# Altium integrated library TI Power Management Battery Management.IntLib: 949 symbols (part 44 of 62)
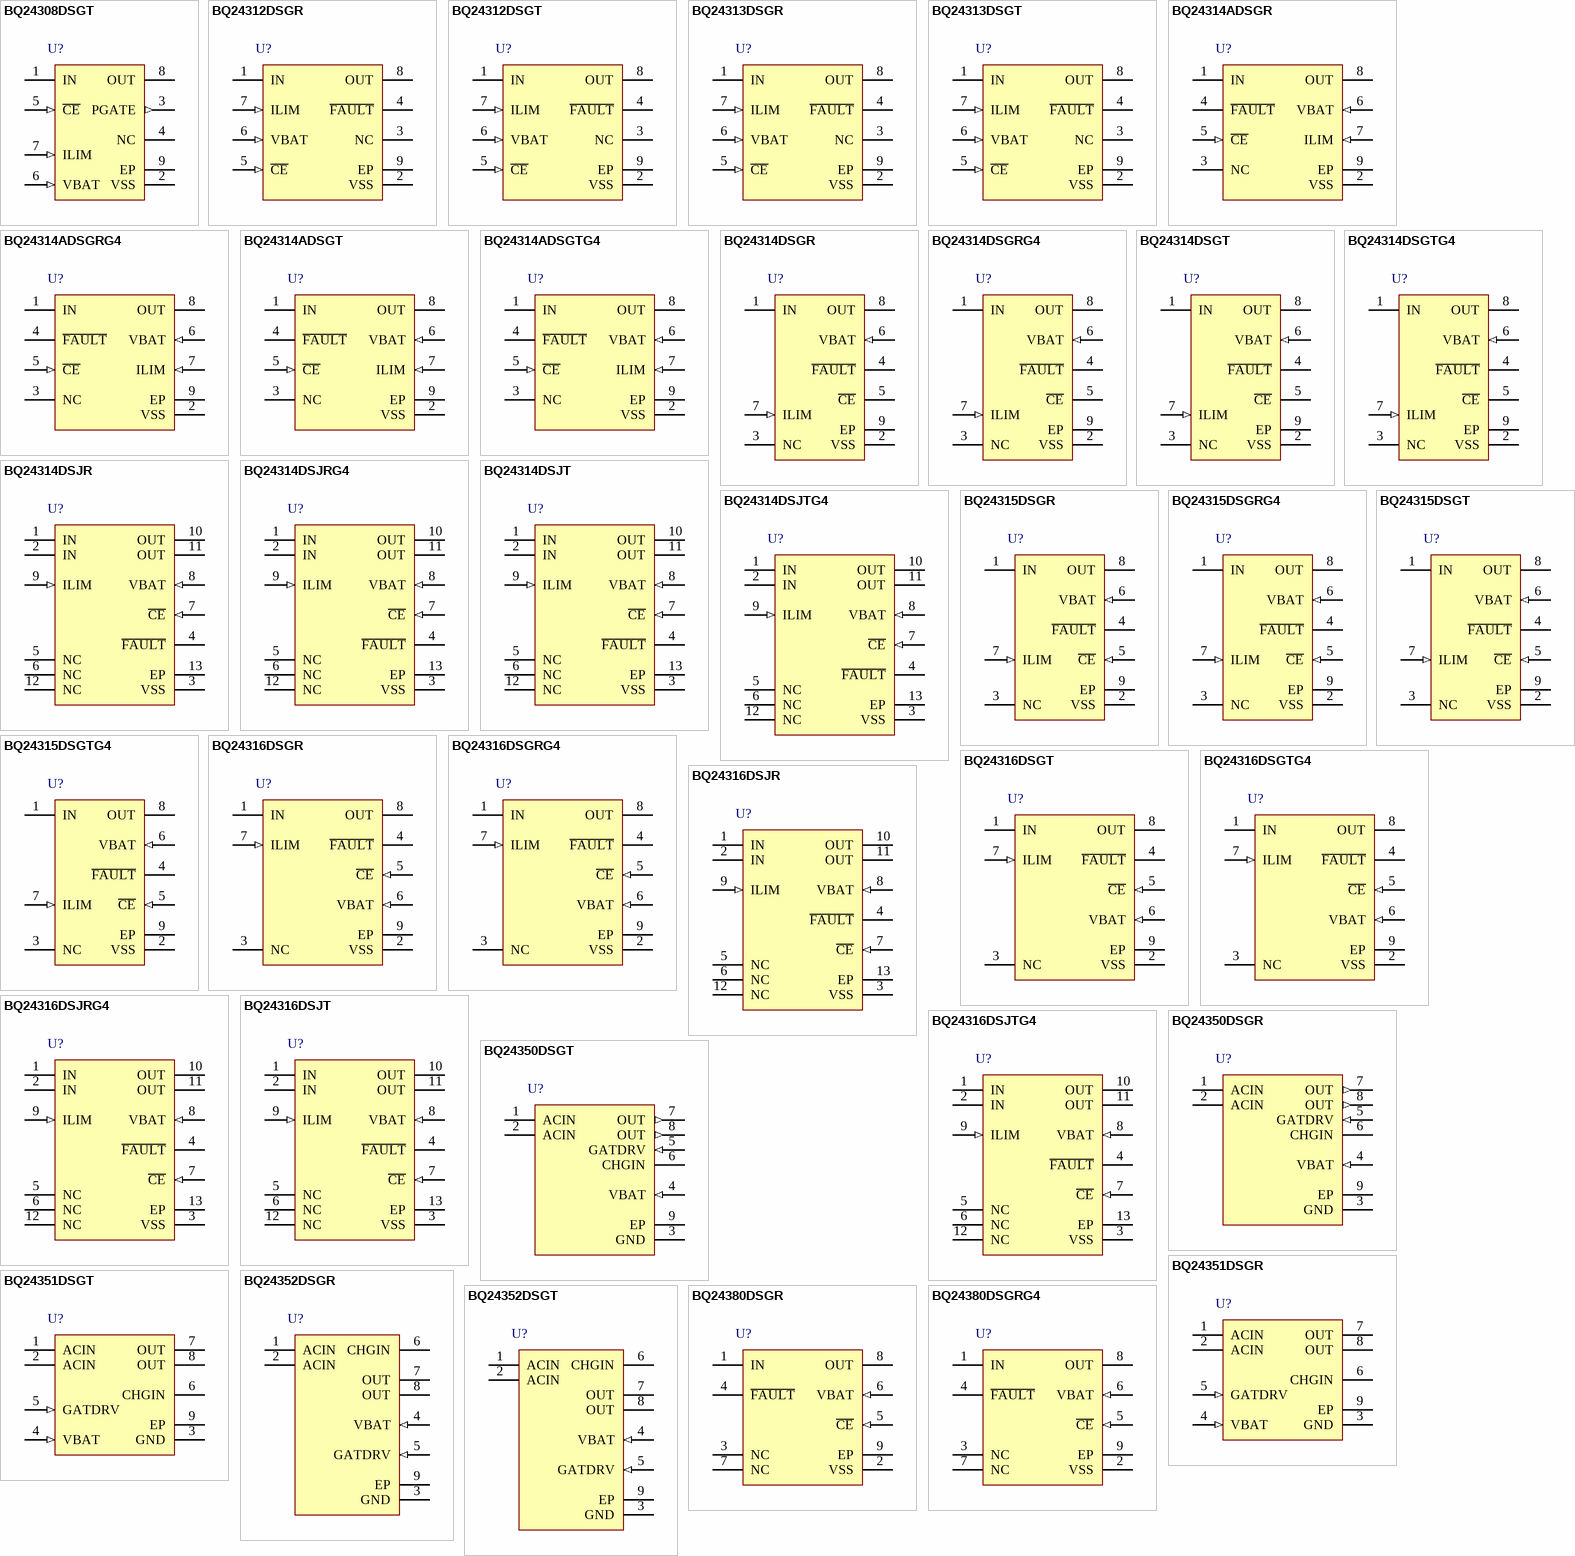
[diagram p77: symbols BQ24308DSGT to BQ24380DSGRG4]

## BQ24314DSGRG4
designator U?
Charger Front End Protection IC with 30 V Max Vin and 5.85 V OVP, -40 to 85 degC, 8-pin WSON (DSG), Green (RoHS & no Sb/Br); PartNumber: BQ24314DSGRG4; Manufacturer: Texas Instruments; Lead Acid: N; DatasheetVersion: SLUS763C; PackageVersion: revB, Oct-2010; PackageReference: DSG8-1600X900TP; PackageDescription: 8-Pin Plastic Small Outline No-Lead, 2 x 2 x 0.8 mm Body, 0.5 mm Pitch, Exposed Pad; Supplier 1: Digi-Key; Supplier Part Number 1: BQ24314DSGRG4-ND; Supplier 2: Mouser; Supplier Part Number 2: 595-BQ24314DSGRG4; Eco-Plan: Green (RoHS & no Sb/Br); Li-Ion: N; Li-Polymer: N; NiCd: N; NiMH: N; Over Voltage Protection: N; SubFamily: Charger Front End Protection; Mounting Technology: Surface Mount; Code_JEDEC: MO-229; ComponentLink1Description: Datasheet; ComponentLink1URL: http://www.ti.com/general/docs/lit/getliterature.tsp?genericPartNumber=BQ24314&fileType=pdf
footprint DSG8-1600X900TP (SON, 8-Leads, Body 2x2mm, Pitch 0.5mm, Thermal Pad 1.6x0.9mm, TI Recommended)
pins: 1 IN (power) "Input power, connect to external DC supply. Connect external 1uF ceramic capacitor (minimum) to VSS. For the 12 pin (DSJ-suffix) device, ensure that pins 1 and 2 are connected together on the PCB at the device.", 2 VSS (power) "Ground terminal", 3 NC "These pins may have internal circuits used for test purposes. Do not make any external connections at these pins for normal operation.", 4 ~{FAULT} (hiz) "Open-drain output, device status. F\A\U\L\T\ = Low indicates that the input FET Q1 has been turned off due to input overvoltage, input overcurrent, battery overvoltage, or thermal shutdown.", 5 ~{CE} "Chip enable input. Active low. When C\E\ = High, the input FET is off. Internally pulled down.", 6 VBAT (in) "Battery voltage sense input. Connect to pack positive terminal through a resistor.", 7 ILIM (in) "Input overcurrent threshold programming. Connect a resistor to VSS to set the overcurrent threshold.", 8 OUT (power) "Output terminal to the charging system. Connect external 1uF ceramic capacitor (minimum) to VSS.", 9 EP (power) "There is an internal electrical connection between the exposed thermal pad and the VSS pin of the Thermal device. The thermal pad must be connected to the same potential as the VSS pin on the printed PAD circuit board. Do (See Datasheet)"

## BQ24314DSGT
designator U?
Charger Front End Protection IC with 30 V Max Vin and 5.85 V OVP, -40 to 85 degC, 8-pin WSON (DSG), Green (RoHS & no Sb/Br); PartNumber: BQ24314DSGT; Manufacturer: Texas Instruments; Lead Acid: N; DatasheetVersion: SLUS763C; PackageVersion: revB, Oct-2010; PackageReference: DSG8-1600X900TP; PackageDescription: 8-Pin Plastic Small Outline No-Lead, 2 x 2 x 0.8 mm Body, 0.5 mm Pitch, Exposed Pad; Supplier 1: Digi-Key; Supplier Part Number 1: BQ24314DSGT-ND; Supplier 2: Farnell; Supplier Part Number 2: 1754758RL; Supplier 3: Farnell; Supplier Part Number 3: 1754758; Supplier 4: Mouser; Supplier Part Number 4: 595-BQ24314DSGT; Eco-Plan: Green (RoHS & no Sb/Br); Li-Ion: N; Li-Polymer: N; NiCd: N; NiMH: N; Over Voltage Protection: N; SubFamily: Charger Front End Protection; Mounting Technology: Surface Mount; Code_JEDEC: MO-229; ComponentLink1Description: Datasheet; ComponentLink1URL: http://www.ti.com/general/docs/lit/getliterature.tsp?genericPartNumber=BQ24314&fileType=pdf
footprint DSG8-1600X900TP (SON, 8-Leads, Body 2x2mm, Pitch 0.5mm, Thermal Pad 1.6x0.9mm, TI Recommended)
pins: 1 IN (power) "Input power, connect to external DC supply. Connect external 1uF ceramic capacitor (minimum) to VSS. For the 12 pin (DSJ-suffix) device, ensure that pins 1 and 2 are connected together on the PCB at the device.", 2 VSS (power) "Ground terminal", 3 NC "These pins may have internal circuits used for test purposes. Do not make any external connections at these pins for normal operation.", 4 ~{FAULT} (hiz) "Open-drain output, device status. F\A\U\L\T\ = Low indicates that the input FET Q1 has been turned off due to input overvoltage, input overcurrent, battery overvoltage, or thermal shutdown.", 5 ~{CE} "Chip enable input. Active low. When C\E\ = High, the input FET is off. Internally pulled down.", 6 VBAT (in) "Battery voltage sense input. Connect to pack positive terminal through a resistor.", 7 ILIM (in) "Input overcurrent threshold programming. Connect a resistor to VSS to set the overcurrent threshold.", 8 OUT (power) "Output terminal to the charging system. Connect external 1uF ceramic capacitor (minimum) to VSS.", 9 EP (power) "There is an internal electrical connection between the exposed thermal pad and the VSS pin of the Thermal device. The thermal pad must be connected to the same potential as the VSS pin on the printed PAD circuit board. Do (See Datasheet)"

## BQ24314DSGTG4
designator U?
Charger Front End Protection IC with 30 V Max Vin and 5.85 V OVP, -40 to 85 degC, 8-pin WSON (DSG), Green (RoHS & no Sb/Br); PartNumber: BQ24314DSGTG4; Manufacturer: Texas Instruments; Lead Acid: N; DatasheetVersion: SLUS763C; PackageVersion: revB, Oct-2010; PackageReference: DSG8-1600X900TP; PackageDescription: 8-Pin Plastic Small Outline No-Lead, 2 x 2 x 0.8 mm Body, 0.5 mm Pitch, Exposed Pad; Supplier 1: Digi-Key; Supplier Part Number 1: BQ24314DSGTG4-ND; Supplier 2: Mouser; Supplier Part Number 2: 595-BQ24314DSGTG4; Eco-Plan: Green (RoHS & no Sb/Br); Li-Ion: N; Li-Polymer: N; NiCd: N; NiMH: N; Over Voltage Protection: N; SubFamily: Charger Front End Protection; Mounting Technology: Surface Mount; Code_JEDEC: MO-229; ComponentLink1Description: Datasheet; ComponentLink1URL: http://www.ti.com/general/docs/lit/getliterature.tsp?genericPartNumber=BQ24314&fileType=pdf
footprint DSG8-1600X900TP (SON, 8-Leads, Body 2x2mm, Pitch 0.5mm, Thermal Pad 1.6x0.9mm, TI Recommended)
pins: 1 IN (power) "Input power, connect to external DC supply. Connect external 1uF ceramic capacitor (minimum) to VSS. For the 12 pin (DSJ-suffix) device, ensure that pins 1 and 2 are connected together on the PCB at the device.", 2 VSS (power) "Ground terminal", 3 NC "These pins may have internal circuits used for test purposes. Do not make any external connections at these pins for normal operation.", 4 ~{FAULT} (hiz) "Open-drain output, device status. F\A\U\L\T\ = Low indicates that the input FET Q1 has been turned off due to input overvoltage, input overcurrent, battery overvoltage, or thermal shutdown.", 5 ~{CE} "Chip enable input. Active low. When C\E\ = High, the input FET is off. Internally pulled down.", 6 VBAT (in) "Battery voltage sense input. Connect to pack positive terminal through a resistor.", 7 ILIM (in) "Input overcurrent threshold programming. Connect a resistor to VSS to set the overcurrent threshold.", 8 OUT (power) "Output terminal to the charging system. Connect external 1uF ceramic capacitor (minimum) to VSS.", 9 EP (power) "There is an internal electrical connection between the exposed thermal pad and the VSS pin of the Thermal device. The thermal pad must be connected to the same potential as the VSS pin on the printed PAD circuit board. Do (See Datasheet)"

## BQ24314DSJR
designator U?
Charger Front End Protection IC with 30 V Max Vin and 5.85 V OVP, -40 to 85 degC, 12-pin VSON (DSJ), Green (RoHS & no Sb/Br); PartNumber: BQ24314DSJR; Manufacturer: Texas Instruments; Lead Acid: N; DatasheetVersion: SLUS763C; PackageVersion: revC, Jun-2011; PackageReference: DSJ12-3300X1700TP; PackageDescription: 12-Pin Plastic Small Outline No-Lead, 3 x 4 x 1 mm Body, 0.5 mm Pitch, Exposed Pad; Supplier 1: Digi-Key; Supplier Part Number 1: 296-24698-2-ND; Supplier 2: Digi-Key; Supplier Part Number 2: 296-24698-1-ND; Supplier 3: Digi-Key; Supplier Part Number 3: 296-24698-6-ND; Supplier 4: Mouser; Supplier Part Number 4: 595-BQ24314DSJR; Eco-Plan: Green (RoHS & no Sb/Br); Li-Ion: N; Li-Polymer: N; NiCd: N; NiMH: N; Over Voltage Protection: N; SubFamily: Charger Front End Protection; Mounting Technology: Surface Mount; Code_JEDEC: MO-229; ComponentLink1Description: Datasheet; ComponentLink1URL: http://www.ti.com/general/docs/lit/getliterature.tsp?genericPartNumber=BQ24314&fileType=pdf
footprint DSJ12-3300X1700TP (SON, 12-Leads, Body 3x4mm, Pitch 0.5mm, Thermal Pad 3.3x1.7mm)
pins: 1 IN (power) "Input power, connect to external DC supply. Connect external 1uF ceramic capacitor (minimum) to VSS. For the 12 pin (DSJ-suffix) device, ensure that pins 1 and 2 are connected together on the PCB at the device.", 2 IN (power) "Input power, connect to external DC supply. Connect external 1uF ceramic capacitor (minimum) to VSS. For the 12 pin (DSJ-suffix) device, ensure that pins 1 and 2 are connected together on the PCB at the device.", 3 VSS (power) "Ground terminal", 4 ~{FAULT} (hiz) "Open-drain output, device status. F\A\U\L\T\ = Low indicates that the input FET Q1 has been turned off due to input overvoltage, input overcurrent, battery overvoltage, or thermal shutdown.", 5 NC "These pins may have internal circuits used for test purposes. Do not make any external connections at these pins for normal operation.", 6 NC "These pins may have internal circuits used for test purposes. Do not make any external connections at these pins for normal operation.", 7 ~{CE} (in) "Chip enable input. Active low. When C\E\ = High, the input FET is off. Internally pulled down.", 8 VBAT (in) "Battery voltage sense input. Connect to pack positive terminal through a resistor.", 9 ILIM (in) "Input overcurrent threshold programming. Connect a resistor to VSS to set the overcurrent threshold.", 10 OUT (power) "Output terminal to the charging system. Connect external 1uF ceramic capacitor (minimum) to VSS.", 11 OUT (power) "Output terminal to the charging system. Connect external 1uF ceramic capacitor (minimum) to VSS.", 12 NC "These pins may have internal circuits used for test purposes. Do not make any external connections at these pins for normal operation.", 13 EP (power) "There is an internal electrical connection between the exposed thermal pad and the VSS pin of the device. The thermal pad must be connected to the same potential as the VSS pin on the printed circuit board. Do not use the (See Datasheet)"

## BQ24314DSJRG4
designator U?
Charger Front End Protection IC with 30 V Max Vin and 5.85 V OVP, -40 to 85 degC, 12-pin VSON (DSJ), Green (RoHS & no Sb/Br); PartNumber: BQ24314DSJRG4; Manufacturer: Texas Instruments; Lead Acid: N; DatasheetVersion: SLUS763C; PackageVersion: revC, Jun-2011; PackageReference: DSJ12-3300X1700TP; PackageDescription: 12-Pin Plastic Small Outline No-Lead, 3 x 4 x 1 mm Body, 0.5 mm Pitch, Exposed Pad; Supplier 1: Digi-Key; Supplier Part Number 1: BQ24314DSJRG4-ND; Supplier 2: Mouser; Supplier Part Number 2: 595-BQ24314DSJRG4; Eco-Plan: Green (RoHS & no Sb/Br); Li-Ion: N; Li-Polymer: N; NiCd: N; NiMH: N; Over Voltage Protection: N; SubFamily: Charger Front End Protection; Mounting Technology: Surface Mount; Code_JEDEC: MO-229; ComponentLink1Description: Datasheet; ComponentLink1URL: http://www.ti.com/general/docs/lit/getliterature.tsp?genericPartNumber=BQ24314&fileType=pdf
footprint DSJ12-3300X1700TP (SON, 12-Leads, Body 3x4mm, Pitch 0.5mm, Thermal Pad 3.3x1.7mm)
pins: 1 IN (power) "Input power, connect to external DC supply. Connect external 1uF ceramic capacitor (minimum) to VSS. For the 12 pin (DSJ-suffix) device, ensure that pins 1 and 2 are connected together on the PCB at the device.", 2 IN (power) "Input power, connect to external DC supply. Connect external 1uF ceramic capacitor (minimum) to VSS. For the 12 pin (DSJ-suffix) device, ensure that pins 1 and 2 are connected together on the PCB at the device.", 3 VSS (power) "Ground terminal", 4 ~{FAULT} (hiz) "Open-drain output, device status. F\A\U\L\T\ = Low indicates that the input FET Q1 has been turned off due to input overvoltage, input overcurrent, battery overvoltage, or thermal shutdown.", 5 NC "These pins may have internal circuits used for test purposes. Do not make any external connections at these pins for normal operation.", 6 NC "These pins may have internal circuits used for test purposes. Do not make any external connections at these pins for normal operation.", 7 ~{CE} (in) "Chip enable input. Active low. When C\E\ = High, the input FET is off. Internally pulled down.", 8 VBAT (in) "Battery voltage sense input. Connect to pack positive terminal through a resistor.", 9 ILIM (in) "Input overcurrent threshold programming. Connect a resistor to VSS to set the overcurrent threshold.", 10 OUT (power) "Output terminal to the charging system. Connect external 1uF ceramic capacitor (minimum) to VSS.", 11 OUT (power) "Output terminal to the charging system. Connect external 1uF ceramic capacitor (minimum) to VSS.", 12 NC "These pins may have internal circuits used for test purposes. Do not make any external connections at these pins for normal operation.", 13 EP (power) "There is an internal electrical connection between the exposed thermal pad and the VSS pin of the device. The thermal pad must be connected to the same potential as the VSS pin on the printed circuit board. Do not use the (See Datasheet)"

## BQ24314DSJT
designator U?
Charger Front End Protection IC with 30 V Max Vin and 5.85 V OVP, -40 to 85 degC, 12-pin VSON (DSJ), Green (RoHS & no Sb/Br); PartNumber: BQ24314DSJT; Manufacturer: Texas Instruments; Lead Acid: N; DatasheetVersion: SLUS763C; PackageVersion: revC, Jun-2011; PackageReference: DSJ12-3300X1700TP; PackageDescription: 12-Pin Plastic Small Outline No-Lead, 3 x 4 x 1 mm Body, 0.5 mm Pitch, Exposed Pad; Supplier 1: Digi-Key; Supplier Part Number 1: BQ24314DSJT-ND; Supplier 2: Mouser; Supplier Part Number 2: 595-BQ24314DSJT; Eco-Plan: Green (RoHS & no Sb/Br); Li-Ion: N; Li-Polymer: N; NiCd: N; NiMH: N; Over Voltage Protection: N; SubFamily: Charger Front End Protection; Mounting Technology: Surface Mount; Code_JEDEC: MO-229; ComponentLink1Description: Datasheet; ComponentLink1URL: http://www.ti.com/general/docs/lit/getliterature.tsp?genericPartNumber=BQ24314&fileType=pdf
footprint DSJ12-3300X1700TP (SON, 12-Leads, Body 3x4mm, Pitch 0.5mm, Thermal Pad 3.3x1.7mm)
pins: 1 IN (power) "Input power, connect to external DC supply. Connect external 1uF ceramic capacitor (minimum) to VSS. For the 12 pin (DSJ-suffix) device, ensure that pins 1 and 2 are connected together on the PCB at the device.", 2 IN (power) "Input power, connect to external DC supply. Connect external 1uF ceramic capacitor (minimum) to VSS. For the 12 pin (DSJ-suffix) device, ensure that pins 1 and 2 are connected together on the PCB at the device.", 3 VSS (power) "Ground terminal", 4 ~{FAULT} (hiz) "Open-drain output, device status. F\A\U\L\T\ = Low indicates that the input FET Q1 has been turned off due to input overvoltage, input overcurrent, battery overvoltage, or thermal shutdown.", 5 NC "These pins may have internal circuits used for test purposes. Do not make any external connections at these pins for normal operation.", 6 NC "These pins may have internal circuits used for test purposes. Do not make any external connections at these pins for normal operation.", 7 ~{CE} (in) "Chip enable input. Active low. When C\E\ = High, the input FET is off. Internally pulled down.", 8 VBAT (in) "Battery voltage sense input. Connect to pack positive terminal through a resistor.", 9 ILIM (in) "Input overcurrent threshold programming. Connect a resistor to VSS to set the overcurrent threshold.", 10 OUT (power) "Output terminal to the charging system. Connect external 1uF ceramic capacitor (minimum) to VSS.", 11 OUT (power) "Output terminal to the charging system. Connect external 1uF ceramic capacitor (minimum) to VSS.", 12 NC "These pins may have internal circuits used for test purposes. Do not make any external connections at these pins for normal operation.", 13 EP (power) "There is an internal electrical connection between the exposed thermal pad and the VSS pin of the device. The thermal pad must be connected to the same potential as the VSS pin on the printed circuit board. Do not use the (See Datasheet)"

## BQ24314DSJTG4
designator U?
Charger Front End Protection IC with 30 V Max Vin and 5.85 V OVP, -40 to 85 degC, 12-pin VSON (DSJ), Green (RoHS & no Sb/Br); PartNumber: BQ24314DSJTG4; Manufacturer: Texas Instruments; Lead Acid: N; DatasheetVersion: SLUS763C; PackageVersion: revC, Jun-2011; PackageReference: DSJ12-3300X1700TP; PackageDescription: 12-Pin Plastic Small Outline No-Lead, 3 x 4 x 1 mm Body, 0.5 mm Pitch, Exposed Pad; Supplier 1: Digi-Key; Supplier Part Number 1: BQ24314DSJTG4-ND; Supplier 2: Mouser; Supplier Part Number 2: 595-BQ24314DSJTG4; Eco-Plan: Green (RoHS & no Sb/Br); Li-Ion: N; Li-Polymer: N; NiCd: N; NiMH: N; Over Voltage Protection: N; SubFamily: Charger Front End Protection; Mounting Technology: Surface Mount; Code_JEDEC: MO-229; ComponentLink1Description: Datasheet; ComponentLink1URL: http://www.ti.com/general/docs/lit/getliterature.tsp?genericPartNumber=BQ24314&fileType=pdf
footprint DSJ12-3300X1700TP (SON, 12-Leads, Body 3x4mm, Pitch 0.5mm, Thermal Pad 3.3x1.7mm)
pins: 1 IN (power) "Input power, connect to external DC supply. Connect external 1uF ceramic capacitor (minimum) to VSS. For the 12 pin (DSJ-suffix) device, ensure that pins 1 and 2 are connected together on the PCB at the device.", 2 IN (power) "Input power, connect to external DC supply. Connect external 1uF ceramic capacitor (minimum) to VSS. For the 12 pin (DSJ-suffix) device, ensure that pins 1 and 2 are connected together on the PCB at the device.", 3 VSS (power) "Ground terminal", 4 ~{FAULT} (hiz) "Open-drain output, device status. F\A\U\L\T\ = Low indicates that the input FET Q1 has been turned off due to input overvoltage, input overcurrent, battery overvoltage, or thermal shutdown.", 5 NC "These pins may have internal circuits used for test purposes. Do not make any external connections at these pins for normal operation.", 6 NC "These pins may have internal circuits used for test purposes. Do not make any external connections at these pins for normal operation.", 7 ~{CE} (in) "Chip enable input. Active low. When C\E\ = High, the input FET is off. Internally pulled down.", 8 VBAT (in) "Battery voltage sense input. Connect to pack positive terminal through a resistor.", 9 ILIM (in) "Input overcurrent threshold programming. Connect a resistor to VSS to set the overcurrent threshold.", 10 OUT (power) "Output terminal to the charging system. Connect external 1uF ceramic capacitor (minimum) to VSS.", 11 OUT (power) "Output terminal to the charging system. Connect external 1uF ceramic capacitor (minimum) to VSS.", 12 NC "These pins may have internal circuits used for test purposes. Do not make any external connections at these pins for normal operation.", 13 EP (power) "There is an internal electrical connection between the exposed thermal pad and the VSS pin of the device. The thermal pad must be connected to the same potential as the VSS pin on the printed circuit board. Do not use the (See Datasheet)"

## BQ24315DSGR
designator U?
Overvoltage & Overcurrent Protection IC & Li+ Charger Front-End Protection IC, -40 to 125 degC, 8-pin WSON (DSG), Green (RoHS & no Sb/Br); PartNumber: BQ24315DSGR; Manufacturer: Texas Instruments; Lead Acid: N; SubFamily: Charger Front End Protection; DatasheetVersion: SLUS817A; PackageVersion: revB, Oct-2010; PackageReference: DSG8-1600X900TP; PackageDescription: 8-Pin Plastic Small Outline No-Lead, 2 x 2 x 0.8 mm Body, 0.5 mm Pitch, Exposed Pad; Supplier 1: Digi-Key; Supplier Part Number 1: 296-23341-2-ND; Supplier 2: Digi-Key; Supplier Part Number 2: 296-23341-1-ND; Supplier 3: Digi-Key; Supplier Part Number 3: 296-23341-6-ND; Supplier 4: Mouser; Supplier Part Number 4: 595-BQ24315DSGR; Eco-Plan: Green (RoHS & no Sb/Br); Li-Ion: N; Li-Polymer: N; NiCd: N; NiMH: N; Over Voltage Protection: N; Mounting Technology: Surface Mount; Code_JEDEC: MO-229; ComponentLink1Description: Datasheet; ComponentLink1URL: http://www.ti.com/general/docs/lit/getliterature.tsp?genericPartNumber=BQ24315&fileType=pdf
footprint DSG8-1600X900TP (SON, 8-Leads, Body 2x2mm, Pitch 0.5mm, Thermal Pad 1.6x0.9mm, TI Recommended)
pins: 1 IN (power) "Input power. Connect IN to the external DC supply. Bypass IN to VSS with a 1uF ceramic capacito (minimum).", 2 VSS (power) "Ground terminal", 3 NC "This pin may have internal circuits used for test purposes. Do not make any external connection to this pin for normal operation.", 4 ~{FAULT} (hiz) "Open-drain, device status output. F\A\U\L\T\ = Low indicates that the input FET Q1 is off due to input overvoltage, input overcurrent, battery overvoltage, or thermal shutdown. F\A\U\L\T\ is high impedance during normal (See Datasheet)", 5 ~{CE} (in) "Chip enable active low input. Connect C\E\ = High to disable the IC and turn the input FET off. Connect C\E\ = low for normal operation. C\E\ is internally pulled down.", 6 VBAT (in) "Battery voltage sense input. Connect to the battery pack positive terminal through a resistor.", 7 ILIM (in) "Input overcurrent threshold programming. Connect a resistor from ILIM to VSS to set the overcurrent threshold.", 8 OUT (power) "Output terminal to the charging system. Connect OUT to the external load circuitry. Bypass OUT to VSS with a 1uF ceramic capacitor (minimum).", 9 EP (power) "There is an internal electrical connection between the exposed thermal pad and the VSS pin of the device. The thermal pad must be connected to the same potential as the VSS pin on the printed circuit board. Do not use the (See Datasheet)"

## BQ24315DSGRG4
designator U?
Overvoltage & Overcurrent Protection IC & Li+ Charger Front-End Protection IC, -40 to 125 degC, 8-pin WSON (DSG), Green (RoHS & no Sb/Br); PartNumber: BQ24315DSGRG4; Manufacturer: Texas Instruments; Lead Acid: N; SubFamily: Charger Front End Protection; DatasheetVersion: SLUS817A; PackageVersion: revB, Oct-2010; PackageReference: DSG8-1600X900TP; PackageDescription: 8-Pin Plastic Small Outline No-Lead, 2 x 2 x 0.8 mm Body, 0.5 mm Pitch, Exposed Pad; Supplier 1: Digi-Key; Supplier Part Number 1: BQ24315DSGRG4-ND; Supplier 2: Mouser; Supplier Part Number 2: 595-BQ24315DSGRG4; Eco-Plan: Green (RoHS & no Sb/Br); Li-Ion: N; Li-Polymer: N; NiCd: N; NiMH: N; Over Voltage Protection: N; Mounting Technology: Surface Mount; Code_JEDEC: MO-229; ComponentLink1Description: Datasheet; ComponentLink1URL: http://www.ti.com/general/docs/lit/getliterature.tsp?genericPartNumber=BQ24315&fileType=pdf
footprint DSG8-1600X900TP (SON, 8-Leads, Body 2x2mm, Pitch 0.5mm, Thermal Pad 1.6x0.9mm, TI Recommended)
pins: 1 IN (power) "Input power. Connect IN to the external DC supply. Bypass IN to VSS with a 1uF ceramic capacito (minimum).", 2 VSS (power) "Ground terminal", 3 NC "This pin may have internal circuits used for test purposes. Do not make any external connection to this pin for normal operation.", 4 ~{FAULT} (hiz) "Open-drain, device status output. F\A\U\L\T\ = Low indicates that the input FET Q1 is off due to input overvoltage, input overcurrent, battery overvoltage, or thermal shutdown. F\A\U\L\T\ is high impedance during normal (See Datasheet)", 5 ~{CE} (in) "Chip enable active low input. Connect C\E\ = High to disable the IC and turn the input FET off. Connect C\E\ = low for normal operation. C\E\ is internally pulled down.", 6 VBAT (in) "Battery voltage sense input. Connect to the battery pack positive terminal through a resistor.", 7 ILIM (in) "Input overcurrent threshold programming. Connect a resistor from ILIM to VSS to set the overcurrent threshold.", 8 OUT (power) "Output terminal to the charging system. Connect OUT to the external load circuitry. Bypass OUT to VSS with a 1uF ceramic capacitor (minimum).", 9 EP (power) "There is an internal electrical connection between the exposed thermal pad and the VSS pin of the device. The thermal pad must be connected to the same potential as the VSS pin on the printed circuit board. Do not use the (See Datasheet)"

## BQ24315DSGT
designator U?
Overvoltage & Overcurrent Protection IC & Li+ Charger Front-End Protection IC, -40 to 125 degC, 8-pin WSON (DSG), Green (RoHS & no Sb/Br); PartNumber: BQ24315DSGT; Manufacturer: Texas Instruments; Lead Acid: N; SubFamily: Charger Front End Protection; DatasheetVersion: SLUS817A; PackageVersion: revB, Oct-2010; PackageReference: DSG8-1600X900TP; PackageDescription: 8-Pin Plastic Small Outline No-Lead, 2 x 2 x 0.8 mm Body, 0.5 mm Pitch, Exposed Pad; Supplier 1: Digi-Key; Supplier Part Number 1: 296-32030-2-ND; Supplier 2: Digi-Key; Supplier Part Number 2: 296-32030-1-ND; Supplier 3: Digi-Key; Supplier Part Number 3: 296-32030-6-ND; Supplier 4: Mouser; Supplier Part Number 4: 595-BQ24315DSGT; Eco-Plan: Green (RoHS & no Sb/Br); Li-Ion: N; Li-Polymer: N; NiCd: N; NiMH: N; Over Voltage Protection: N; Mounting Technology: Surface Mount; Code_JEDEC: MO-229; ComponentLink1Description: Datasheet; ComponentLink1URL: http://www.ti.com/general/docs/lit/getliterature.tsp?genericPartNumber=BQ24315&fileType=pdf
footprint DSG8-1600X900TP (SON, 8-Leads, Body 2x2mm, Pitch 0.5mm, Thermal Pad 1.6x0.9mm, TI Recommended)
pins: 1 IN (power) "Input power. Connect IN to the external DC supply. Bypass IN to VSS with a 1uF ceramic capacito (minimum).", 2 VSS (power) "Ground terminal", 3 NC "This pin may have internal circuits used for test purposes. Do not make any external connection to this pin for normal operation.", 4 ~{FAULT} (hiz) "Open-drain, device status output. F\A\U\L\T\ = Low indicates that the input FET Q1 is off due to input overvoltage, input overcurrent, battery overvoltage, or thermal shutdown. F\A\U\L\T\ is high impedance during normal (See Datasheet)", 5 ~{CE} (in) "Chip enable active low input. Connect C\E\ = High to disable the IC and turn the input FET off. Connect C\E\ = low for normal operation. C\E\ is internally pulled down.", 6 VBAT (in) "Battery voltage sense input. Connect to the battery pack positive terminal through a resistor.", 7 ILIM (in) "Input overcurrent threshold programming. Connect a resistor from ILIM to VSS to set the overcurrent threshold.", 8 OUT (power) "Output terminal to the charging system. Connect OUT to the external load circuitry. Bypass OUT to VSS with a 1uF ceramic capacitor (minimum).", 9 EP (power) "There is an internal electrical connection between the exposed thermal pad and the VSS pin of the device. The thermal pad must be connected to the same potential as the VSS pin on the printed circuit board. Do not use the (See Datasheet)"

## BQ24315DSGTG4
designator U?
Overvoltage & Overcurrent Protection IC & Li+ Charger Front-End Protection IC, -40 to 125 degC, 8-pin WSON (DSG), Green (RoHS & no Sb/Br); PartNumber: BQ24315DSGTG4; Manufacturer: Texas Instruments; Lead Acid: N; SubFamily: Charger Front End Protection; DatasheetVersion: SLUS817A; PackageVersion: revB, Oct-2010; PackageReference: DSG8-1600X900TP; PackageDescription: 8-Pin Plastic Small Outline No-Lead, 2 x 2 x 0.8 mm Body, 0.5 mm Pitch, Exposed Pad; Supplier 1: Digi-Key; Supplier Part Number 1: BQ24315DSGTG4-ND; Supplier 2: Mouser; Supplier Part Number 2: 595-BQ24315DSGTG4; Eco-Plan: Green (RoHS & no Sb/Br); Li-Ion: N; Li-Polymer: N; NiCd: N; NiMH: N; Over Voltage Protection: N; Mounting Technology: Surface Mount; Code_JEDEC: MO-229; ComponentLink1Description: Datasheet; ComponentLink1URL: http://www.ti.com/general/docs/lit/getliterature.tsp?genericPartNumber=BQ24315&fileType=pdf
footprint DSG8-1600X900TP (SON, 8-Leads, Body 2x2mm, Pitch 0.5mm, Thermal Pad 1.6x0.9mm, TI Recommended)
pins: 1 IN (power) "Input power. Connect IN to the external DC supply. Bypass IN to VSS with a 1uF ceramic capacito (minimum).", 2 VSS (power) "Ground terminal", 3 NC "This pin may have internal circuits used for test purposes. Do not make any external connection to this pin for normal operation.", 4 ~{FAULT} (hiz) "Open-drain, device status output. F\A\U\L\T\ = Low indicates that the input FET Q1 is off due to input overvoltage, input overcurrent, battery overvoltage, or thermal shutdown. F\A\U\L\T\ is high impedance during normal (See Datasheet)", 5 ~{CE} (in) "Chip enable active low input. Connect C\E\ = High to disable the IC and turn the input FET off. Connect C\E\ = low for normal operation. C\E\ is internally pulled down.", 6 VBAT (in) "Battery voltage sense input. Connect to the battery pack positive terminal through a resistor.", 7 ILIM (in) "Input overcurrent threshold programming. Connect a resistor from ILIM to VSS to set the overcurrent threshold.", 8 OUT (power) "Output terminal to the charging system. Connect OUT to the external load circuitry. Bypass OUT to VSS with a 1uF ceramic capacitor (minimum).", 9 EP (power) "There is an internal electrical connection between the exposed thermal pad and the VSS pin of the device. The thermal pad must be connected to the same potential as the VSS pin on the printed circuit board. Do not use the (See Datasheet)"

## BQ24316DSGR
designator U?
Charger Front End Protection IC with 30 V Max Vin and 6.8 V OVP, -40 to 85 degC, 8-pin WSON (DSG), Green (RoHS & no Sb/Br); PartNumber: BQ24316DSGR; Manufacturer: Texas Instruments; Lead Acid: N; DatasheetVersion: SLUS763C; PackageVersion: revB, Oct-2010; PackageReference: DSG8-1600X900TP; PackageDescription: 8-Pin Plastic Small Outline No-Lead, 2 x 2 x 0.8 mm Body, 0.5 mm Pitch, Exposed Pad; Supplier 1: Digi-Key; Supplier Part Number 1: 296-22613-2-ND; Supplier 2: Digi-Key; Supplier Part Number 2: 296-22613-1-ND; Supplier 3: Digi-Key; Supplier Part Number 3: 296-22613-6-ND; Supplier 4: Newark; Supplier Part Number 4: 58M0295; Supplier 5: Mouser; Supplier Part Number 5: 595-BQ24316DSGR; Eco-Plan: Green (RoHS & no Sb/Br); Li-Ion: N; Li-Polymer: N; NiCd: N; NiMH: N; Over Voltage Protection: N; SubFamily: Charger Front End Protection; Mounting Technology: Surface Mount; Code_JEDEC: MO-229; ComponentLink1Description: Datasheet; ComponentLink1URL: http://www.ti.com/general/docs/lit/getliterature.tsp?genericPartNumber=BQ24316&fileType=pdf
footprint DSG8-1600X900TP (SON, 8-Leads, Body 2x2mm, Pitch 0.5mm, Thermal Pad 1.6x0.9mm, TI Recommended)
pins: 1 IN (power) "Input power, connect to external DC supply. Connect external 1uF ceramic capacitor (minimum) to VSS. For the 12 pin (DSJ-suffix) device, ensure that pins 1 and 2 are connected together on the PCB at the device.", 2 VSS (power) "Ground terminal", 3 NC "These pins may have internal circuits used for test purposes. Do not make any external connections at these pins for normal operation.", 4 ~{FAULT} (hiz) "Open-drain output, device status. F\A\U\L\T\ = Low indicates that the input FET Q1 has been turned off due to input overvoltage, input overcurrent, battery overvoltage, or thermal shutdown.", 5 ~{CE} (in) "Chip enable input. Active low. When C\E\ = High, the input FET is off. Internally pulled down.", 6 VBAT (in) "Battery voltage sense input. Connect to pack positive terminal through a resistor.", 7 ILIM (in) "Input overcurrent threshold programming. Connect a resistor to VSS to set the overcurrent threshold.", 8 OUT (power) "Output terminal to the charging system. Connect external 1uF ceramic capacitor (minimum) to VSS.", 9 EP (power) "There is an internal electrical connection between the exposed thermal pad and the VSS pin of the device. The thermal pad must be connected to the same potential as the VSS pin on the printed circuit board. Do not use the (See Datasheet)"

## BQ24316DSGRG4
designator U?
Charger Front End Protection IC with 30 V Max Vin and 6.8 V OVP, -40 to 85 degC, 8-pin WSON (DSG), Green (RoHS & no Sb/Br); PartNumber: BQ24316DSGRG4; Manufacturer: Texas Instruments; Lead Acid: N; DatasheetVersion: SLUS763C; PackageVersion: revB, Oct-2010; PackageReference: DSG8-1600X900TP; PackageDescription: 8-Pin Plastic Small Outline No-Lead, 2 x 2 x 0.8 mm Body, 0.5 mm Pitch, Exposed Pad; Supplier 1: Digi-Key; Supplier Part Number 1: BQ24316DSGRG4-ND; Supplier 2: Newark; Supplier Part Number 2: 59M9837; Supplier 3: Mouser; Supplier Part Number 3: 595-BQ24316DSGRG4; Eco-Plan: Green (RoHS & no Sb/Br); Li-Ion: N; Li-Polymer: N; NiCd: N; NiMH: N; Over Voltage Protection: N; SubFamily: Charger Front End Protection; Mounting Technology: Surface Mount; Code_JEDEC: MO-229; ComponentLink1Description: Datasheet; ComponentLink1URL: http://www.ti.com/general/docs/lit/getliterature.tsp?genericPartNumber=BQ24316&fileType=pdf
footprint DSG8-1600X900TP (SON, 8-Leads, Body 2x2mm, Pitch 0.5mm, Thermal Pad 1.6x0.9mm, TI Recommended)
pins: 1 IN (power) "Input power, connect to external DC supply. Connect external 1uF ceramic capacitor (minimum) to VSS. For the 12 pin (DSJ-suffix) device, ensure that pins 1 and 2 are connected together on the PCB at the device.", 2 VSS (power) "Ground terminal", 3 NC "These pins may have internal circuits used for test purposes. Do not make any external connections at these pins for normal operation.", 4 ~{FAULT} (hiz) "Open-drain output, device status. F\A\U\L\T\ = Low indicates that the input FET Q1 has been turned off due to input overvoltage, input overcurrent, battery overvoltage, or thermal shutdown.", 5 ~{CE} (in) "Chip enable input. Active low. When C\E\ = High, the input FET is off. Internally pulled down.", 6 VBAT (in) "Battery voltage sense input. Connect to pack positive terminal through a resistor.", 7 ILIM (in) "Input overcurrent threshold programming. Connect a resistor to VSS to set the overcurrent threshold.", 8 OUT (power) "Output terminal to the charging system. Connect external 1uF ceramic capacitor (minimum) to VSS.", 9 EP (power) "There is an internal electrical connection between the exposed thermal pad and the VSS pin of the device. The thermal pad must be connected to the same potential as the VSS pin on the printed circuit board. Do not use the (See Datasheet)"

## BQ24316DSGT
designator U?
Charger Front End Protection IC with 30 V Max Vin and 6.8 V OVP, -40 to 85 degC, 8-pin WSON (DSG), Green (RoHS & no Sb/Br); PartNumber: BQ24316DSGT; Manufacturer: Texas Instruments; Lead Acid: N; DatasheetVersion: SLUS763C; PackageVersion: revB, Oct-2010; PackageReference: DSG8-1600X900TP; PackageDescription: 8-Pin Plastic Small Outline No-Lead, 2 x 2 x 0.8 mm Body, 0.5 mm Pitch, Exposed Pad; Supplier 1: Digi-Key; Supplier Part Number 1: 296-32031-2-ND; Supplier 2: Digi-Key; Supplier Part Number 2: 296-32031-1-ND; Supplier 3: Digi-Key; Supplier Part Number 3: 296-32031-6-ND; Supplier 4: Farnell; Supplier Part Number 4: 1754759RL; Supplier 5: Farnell; Supplier Part Number 5: 1754759; Supplier 6: Newark; Supplier Part Number 6: 34R6757; Supplier 7: Newark; Supplier Part Number 7: 58M0296; Supplier 8: Mouser; Supplier Part Number 8: 595-BQ24316DSGT; Eco-Plan: Green (RoHS & no Sb/Br); Li-Ion: N; Li-Polymer: N; NiCd: N; NiMH: N; Over Voltage Protection: N; SubFamily: Charger Front End Protection; Mounting Technology: Surface Mount; Code_JEDEC: MO-229; ComponentLink1Description: Datasheet; ComponentLink1URL: http://www.ti.com/general/docs/lit/getliterature.tsp?genericPartNumber=BQ24316&fileType=pdf
footprint DSG8-1600X900TP (SON, 8-Leads, Body 2x2mm, Pitch 0.5mm, Thermal Pad 1.6x0.9mm, TI Recommended)
pins: 1 IN (power) "Input power, connect to external DC supply. Connect external 1uF ceramic capacitor (minimum) to VSS. For the 12 pin (DSJ-suffix) device, ensure that pins 1 and 2 are connected together on the PCB at the device.", 2 VSS (power) "Ground terminal", 3 NC "These pins may have internal circuits used for test purposes. Do not make any external connections at these pins for normal operation.", 4 ~{FAULT} (hiz) "Open-drain output, device status. F\A\U\L\T\ = Low indicates that the input FET Q1 has been turned off due to input overvoltage, input overcurrent, battery overvoltage, or thermal shutdown.", 5 ~{CE} (in) "Chip enable input. Active low. When C\E\ = High, the input FET is off. Internally pulled down.", 6 VBAT (in) "Battery voltage sense input. Connect to pack positive terminal through a resistor.", 7 ILIM (in) "Input overcurrent threshold programming. Connect a resistor to VSS to set the overcurrent threshold.", 8 OUT (power) "Output terminal to the charging system. Connect external 1uF ceramic capacitor (minimum) to VSS.", 9 EP (power) "There is an internal electrical connection between the exposed thermal pad and the VSS pin of the device. The thermal pad must be connected to the same potential as the VSS pin on the printed circuit board. Do not use the (See Datasheet)"

## BQ24316DSGTG4
designator U?
Charger Front End Protection IC with 30 V Max Vin and 6.8 V OVP, -40 to 85 degC, 8-pin WSON (DSG), Green (RoHS & no Sb/Br); PartNumber: BQ24316DSGTG4; Manufacturer: Texas Instruments; Lead Acid: N; DatasheetVersion: SLUS763C; PackageVersion: revB, Oct-2010; PackageReference: DSG8-1600X900TP; PackageDescription: 8-Pin Plastic Small Outline No-Lead, 2 x 2 x 0.8 mm Body, 0.5 mm Pitch, Exposed Pad; Supplier 1: Digi-Key; Supplier Part Number 1: BQ24316DSGTG4-ND; Supplier 2: Newark; Supplier Part Number 2: 59M9838; Supplier 3: Mouser; Supplier Part Number 3: 595-BQ24316DSGTG4; Eco-Plan: Green (RoHS & no Sb/Br); Li-Ion: N; Li-Polymer: N; NiCd: N; NiMH: N; Over Voltage Protection: N; SubFamily: Charger Front End Protection; Mounting Technology: Surface Mount; Code_JEDEC: MO-229; ComponentLink1Description: Datasheet; ComponentLink1URL: http://www.ti.com/general/docs/lit/getliterature.tsp?genericPartNumber=BQ24316&fileType=pdf
footprint DSG8-1600X900TP (SON, 8-Leads, Body 2x2mm, Pitch 0.5mm, Thermal Pad 1.6x0.9mm, TI Recommended)
pins: 1 IN (power) "Input power, connect to external DC supply. Connect external 1uF ceramic capacitor (minimum) to VSS. For the 12 pin (DSJ-suffix) device, ensure that pins 1 and 2 are connected together on the PCB at the device.", 2 VSS (power) "Ground terminal", 3 NC "These pins may have internal circuits used for test purposes. Do not make any external connections at these pins for normal operation.", 4 ~{FAULT} (hiz) "Open-drain output, device status. F\A\U\L\T\ = Low indicates that the input FET Q1 has been turned off due to input overvoltage, input overcurrent, battery overvoltage, or thermal shutdown.", 5 ~{CE} (in) "Chip enable input. Active low. When C\E\ = High, the input FET is off. Internally pulled down.", 6 VBAT (in) "Battery voltage sense input. Connect to pack positive terminal through a resistor.", 7 ILIM (in) "Input overcurrent threshold programming. Connect a resistor to VSS to set the overcurrent threshold.", 8 OUT (power) "Output terminal to the charging system. Connect external 1uF ceramic capacitor (minimum) to VSS.", 9 EP (power) "There is an internal electrical connection between the exposed thermal pad and the VSS pin of the device. The thermal pad must be connected to the same potential as the VSS pin on the printed circuit board. Do not use the (See Datasheet)"

## BQ24316DSJR
designator U?
Charger Front End Protection IC with 30 V Max Vin and 6.8 V OVP, -40 to 85 degC, 12-pin VSON (DSJ), Green (RoHS & no Sb/Br); PartNumber: BQ24316DSJR; Manufacturer: Texas Instruments; Lead Acid: N; DatasheetVersion: SLUS763C; PackageVersion: revC, Jun-2011; PackageReference: DSJ12-3300X1700TP; PackageDescription: 12-Pin Plastic Small Outline No-Lead, 3 x 4 x 1 mm Body, 0.5 mm Pitch, Exposed Pad; Supplier 1: Digi-Key; Supplier Part Number 1: 296-23342-2-ND; Supplier 2: Digi-Key; Supplier Part Number 2: 296-23342-1-ND; Supplier 3: Digi-Key; Supplier Part Number 3: 296-23342-6-ND; Supplier 4: Mouser; Supplier Part Number 4: 595-BQ24316DSJR; Eco-Plan: Green (RoHS & no Sb/Br); Li-Ion: N; Li-Polymer: N; NiCd: N; NiMH: N; Over Voltage Protection: N; SubFamily: Charger Front End Protection; Mounting Technology: Surface Mount; Code_JEDEC: MO-229; ComponentLink1Description: Datasheet; ComponentLink1URL: http://www.ti.com/general/docs/lit/getliterature.tsp?genericPartNumber=BQ24316&fileType=pdf
footprint DSJ12-3300X1700TP (SON, 12-Leads, Body 3x4mm, Pitch 0.5mm, Thermal Pad 3.3x1.7mm)
pins: 1 IN (power) "Input power, connect to external DC supply. Connect external 1uF ceramic capacitor (minimum) to VSS. For the 12 pin (DSJ-suffix) device, ensure that pins 1 and 2 are connected together on the PCB at the device.", 2 IN (power) "Input power, connect to external DC supply. Connect external 1uF ceramic capacitor (minimum) to VSS. For the 12 pin (DSJ-suffix) device, ensure that pins 1 and 2 are connected together on the PCB at the device.", 3 VSS (power) "Ground terminal", 4 ~{FAULT} (hiz) "Open-drain output, device status. F\A\U\L\T\ = Low indicates that the input FET Q1 has been turned off due to input overvoltage, input overcurrent, battery overvoltage, or thermal shutdown.", 5 NC "These pins may have internal circuits used for test purposes. Do not make any external connections at these pins for normal operation.", 6 NC "These pins may have internal circuits used for test purposes. Do not make any external connections at these pins for normal operation.", 7 ~{CE} (in) "Chip enable input. Active low. When C\E\ = High, the input FET is off. Internally pulled down.", 8 VBAT (in) "Battery voltage sense input. Connect to pack positive terminal through a resistor.", 9 ILIM (in) "Input overcurrent threshold programming. Connect a resistor to VSS to set the overcurrent threshold.", 10 OUT (power) "Output terminal to the charging system. Connect external 1uF ceramic capacitor (minimum) to VSS.", 11 OUT (power) "Output terminal to the charging system. Connect external 1uF ceramic capacitor (minimum) to VSS.", 12 NC "These pins may have internal circuits used for test purposes. Do not make any external connections at these pins for normal operation.", 13 EP (power) "There is an internal electrical connection between the exposed thermal pad and the VSS pin of the device. The thermal pad must be connected to the same potential as the VSS pin on the printed circuit board. Do not use the (See Datasheet)"

## BQ24316DSJRG4
designator U?
Charger Front End Protection IC with 30 V Max Vin and 6.8 V OVP, -40 to 85 degC, 12-pin VSON (DSJ), Green (RoHS & no Sb/Br); PartNumber: BQ24316DSJRG4; Manufacturer: Texas Instruments; Lead Acid: N; DatasheetVersion: SLUS763C; PackageVersion: revC, Jun-2011; PackageReference: DSJ12-3300X1700TP; PackageDescription: 12-Pin Plastic Small Outline No-Lead, 3 x 4 x 1 mm Body, 0.5 mm Pitch, Exposed Pad; Supplier 1: Digi-Key; Supplier Part Number 1: BQ24316DSJRG4-ND; Supplier 2: Mouser; Supplier Part Number 2: 595-BQ24316DSJRG4; Eco-Plan: Green (RoHS & no Sb/Br); Li-Ion: N; Li-Polymer: N; NiCd: N; NiMH: N; Over Voltage Protection: N; SubFamily: Charger Front End Protection; Mounting Technology: Surface Mount; Code_JEDEC: MO-229; ComponentLink1Description: Datasheet; ComponentLink1URL: http://www.ti.com/general/docs/lit/getliterature.tsp?genericPartNumber=BQ24316&fileType=pdf
footprint DSJ12-3300X1700TP (SON, 12-Leads, Body 3x4mm, Pitch 0.5mm, Thermal Pad 3.3x1.7mm)
pins: 1 IN (power) "Input power, connect to external DC supply. Connect external 1uF ceramic capacitor (minimum) to VSS. For the 12 pin (DSJ-suffix) device, ensure that pins 1 and 2 are connected together on the PCB at the device.", 2 IN (power) "Input power, connect to external DC supply. Connect external 1uF ceramic capacitor (minimum) to VSS. For the 12 pin (DSJ-suffix) device, ensure that pins 1 and 2 are connected together on the PCB at the device.", 3 VSS (power) "Ground terminal", 4 ~{FAULT} (hiz) "Open-drain output, device status. F\A\U\L\T\ = Low indicates that the input FET Q1 has been turned off due to input overvoltage, input overcurrent, battery overvoltage, or thermal shutdown.", 5 NC "These pins may have internal circuits used for test purposes. Do not make any external connections at these pins for normal operation.", 6 NC "These pins may have internal circuits used for test purposes. Do not make any external connections at these pins for normal operation.", 7 ~{CE} (in) "Chip enable input. Active low. When C\E\ = High, the input FET is off. Internally pulled down.", 8 VBAT (in) "Battery voltage sense input. Connect to pack positive terminal through a resistor.", 9 ILIM (in) "Input overcurrent threshold programming. Connect a resistor to VSS to set the overcurrent threshold.", 10 OUT (power) "Output terminal to the charging system. Connect external 1uF ceramic capacitor (minimum) to VSS.", 11 OUT (power) "Output terminal to the charging system. Connect external 1uF ceramic capacitor (minimum) to VSS.", 12 NC "These pins may have internal circuits used for test purposes. Do not make any external connections at these pins for normal operation.", 13 EP (power) "There is an internal electrical connection between the exposed thermal pad and the VSS pin of the device. The thermal pad must be connected to the same potential as the VSS pin on the printed circuit board. Do not use the (See Datasheet)"

## BQ24316DSJT
designator U?
Charger Front End Protection IC with 30 V Max Vin and 6.8 V OVP, -40 to 85 degC, 12-pin VSON (DSJ), Green (RoHS & no Sb/Br); PartNumber: BQ24316DSJT; Manufacturer: Texas Instruments; Lead Acid: N; DatasheetVersion: SLUS763C; PackageVersion: revC, Jun-2011; PackageReference: DSJ12-3300X1700TP; PackageDescription: 12-Pin Plastic Small Outline No-Lead, 3 x 4 x 1 mm Body, 0.5 mm Pitch, Exposed Pad; Supplier 1: Digi-Key; Supplier Part Number 1: BQ24316DSJT-ND; Supplier 2: Newark; Supplier Part Number 2: 96M9618; Supplier 3: Mouser; Supplier Part Number 3: 595-BQ24316DSJT; Eco-Plan: Green (RoHS & no Sb/Br); Li-Ion: N; Li-Polymer: N; NiCd: N; NiMH: N; Over Voltage Protection: N; SubFamily: Charger Front End Protection; Mounting Technology: Surface Mount; Code_JEDEC: MO-229; ComponentLink1Description: Datasheet; ComponentLink1URL: http://www.ti.com/general/docs/lit/getliterature.tsp?genericPartNumber=BQ24316&fileType=pdf
footprint DSJ12-3300X1700TP (SON, 12-Leads, Body 3x4mm, Pitch 0.5mm, Thermal Pad 3.3x1.7mm)
pins: 1 IN (power) "Input power, connect to external DC supply. Connect external 1uF ceramic capacitor (minimum) to VSS. For the 12 pin (DSJ-suffix) device, ensure that pins 1 and 2 are connected together on the PCB at the device.", 2 IN (power) "Input power, connect to external DC supply. Connect external 1uF ceramic capacitor (minimum) to VSS. For the 12 pin (DSJ-suffix) device, ensure that pins 1 and 2 are connected together on the PCB at the device.", 3 VSS (power) "Ground terminal", 4 ~{FAULT} (hiz) "Open-drain output, device status. F\A\U\L\T\ = Low indicates that the input FET Q1 has been turned off due to input overvoltage, input overcurrent, battery overvoltage, or thermal shutdown.", 5 NC "These pins may have internal circuits used for test purposes. Do not make any external connections at these pins for normal operation.", 6 NC "These pins may have internal circuits used for test purposes. Do not make any external connections at these pins for normal operation.", 7 ~{CE} (in) "Chip enable input. Active low. When C\E\ = High, the input FET is off. Internally pulled down.", 8 VBAT (in) "Battery voltage sense input. Connect to pack positive terminal through a resistor.", 9 ILIM (in) "Input overcurrent threshold programming. Connect a resistor to VSS to set the overcurrent threshold.", 10 OUT (power) "Output terminal to the charging system. Connect external 1uF ceramic capacitor (minimum) to VSS.", 11 OUT (power) "Output terminal to the charging system. Connect external 1uF ceramic capacitor (minimum) to VSS.", 12 NC "These pins may have internal circuits used for test purposes. Do not make any external connections at these pins for normal operation.", 13 EP (power) "There is an internal electrical connection between the exposed thermal pad and the VSS pin of the device. The thermal pad must be connected to the same potential as the VSS pin on the printed circuit board. Do not use the (See Datasheet)"